# Altium schematic symbol library Passives.SchLib: 10 symbols
Pins are listed as number, name and electrical type; pins without a type are passive.

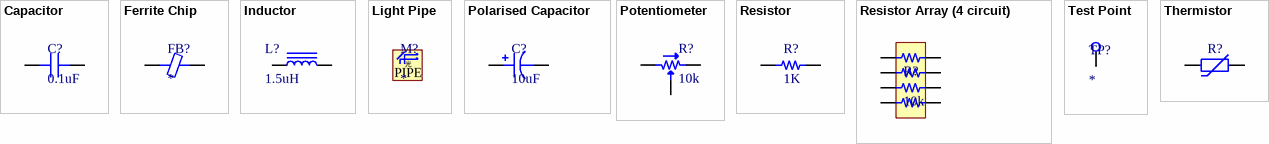
[diagram p0: symbols Capacitor to Thermistor]

## Capacitor
designator C?, comment 0.1uF
SMT Capacitor; Value: 0.1uF
pins: 1, 2

## Ferrite Chip
designator FB?
SMT Ferrite Chip
pins: 1, 2

## Inductor
designator L?, comment 1.5uH
SMT Inductor; Value: 1.5uH
pins: 1, 2

## Light Pipe
designator M?
text: 光; PIPE

## Polarised Capacitor
designator C?, comment 10uF
SMT Polarised Capacitor; Value: 10uF
pins: 1, 2

## Potentiometer
designator R?, comment 10k
Potentiometer; Value: 10k
pins: 1, 2, 3

## Resistor
designator R?, comment 1K
SMT Resistor; Value: 1K
pins: 1, 2

## Resistor Array (4 circuit)
designator R?, comment 10k
SMT Resistor Array; Value: 10k
pins: 1, 2, 3, 4, 5, 6, 7, 8

## Test Point
designator TP?
pins: 1 TP

## Thermistor
designator R?
SMT Resistor; Value: ="Resistance in Ohms @ 25C"
pins: 1, 2